# Altium footprint library Modules.PcbLib: 1 footprints
Each footprint in its own frame and in the unit in brackets; x right, y up, seen from the top. Pads: shape width x height; smd on the part's side, far side on the other; paste and mask are expansions set on the pad; w line width, h text height; cw(c..) or ccw(c..) is an arc to the next point about the centre after c.
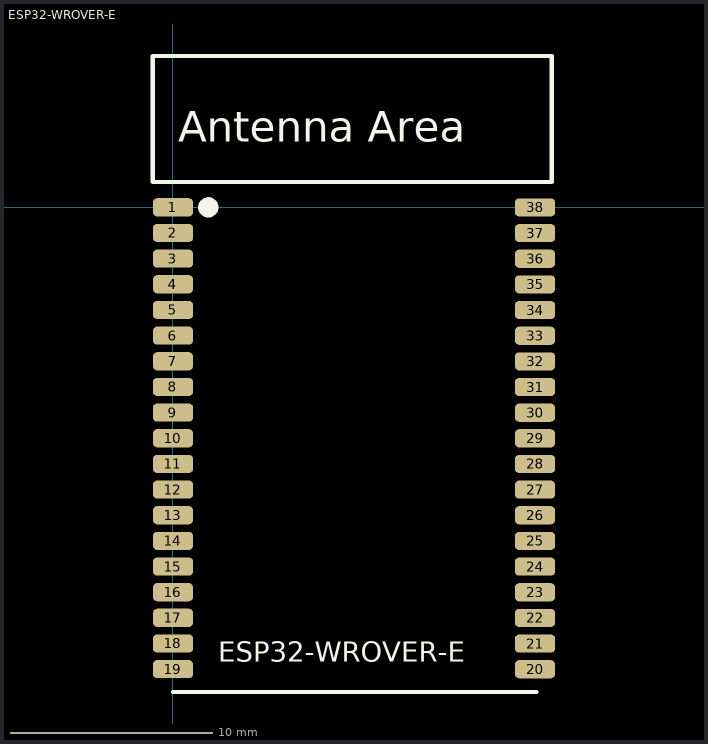
[diagram p0: the footprint, top view; thin cyan lines are the x and y axes]

## ESP32-WROVER-E [mm]
pads (38):
  rrect50% 2x0.9 smd: 1(0,0) 2(0,-1.27) 3(0,-2.54) 4(0,-3.81) 5(0,-5.08) 6(0,-6.35) 7(0,-7.62) 8(0,-8.89) 9(0,-10.16) 10(0,-11.43) 11(0,-12.7) 12(0,-13.97) 13(0,-15.24) 14(0,-16.51) 15(0,-17.78) 16(0,-19.05) 17(0,-20.32) 18(0,-21.59) 19(0,-22.86) 20(17.922,-22.864) 21(17.922,-21.594) 22(17.922,-20.324) 23(17.922,-19.054) 24(17.922,-17.784) 25(17.922,-16.514) 26(17.922,-15.244) 27(17.922,-13.974) 28(17.922,-12.704) 29(17.922,-11.434) 30(17.922,-10.164) 31(17.922,-8.894) 32(17.922,-7.624) 33(17.922,-6.354) 34(17.922,-5.084) 35(17.922,-3.814) 36(17.922,-2.544) 37(17.922,-1.274) 38(17.922,-0.004)
Top Overlay:
  circle w0.5: c1.75,0 r0.25
  lines w0.2: 0,-24 18,-24 ; -1,1.25 18.75,1.25 18.75,7.5 -1,7.5 -1,1.25
  text "ESP32-WROVER-E" at 2.25,-22.5 h1
  text "Antenna Area" at 0.254,3.254 h1.52